# Altium footprint library QFP_Shrink_Sq_50P_Side_N.PcbLib: 32 footprints (part 3 of 3)
Each footprint in its own frame and in the unit in brackets; x right, y up, seen from the top. Pads: shape width x height; smd on the part's side, far side on the other; paste and mask are expansions set on the pad; w line width, h text height; cw(c..) or ccw(c..) is an arc to the next point about the centre after c.
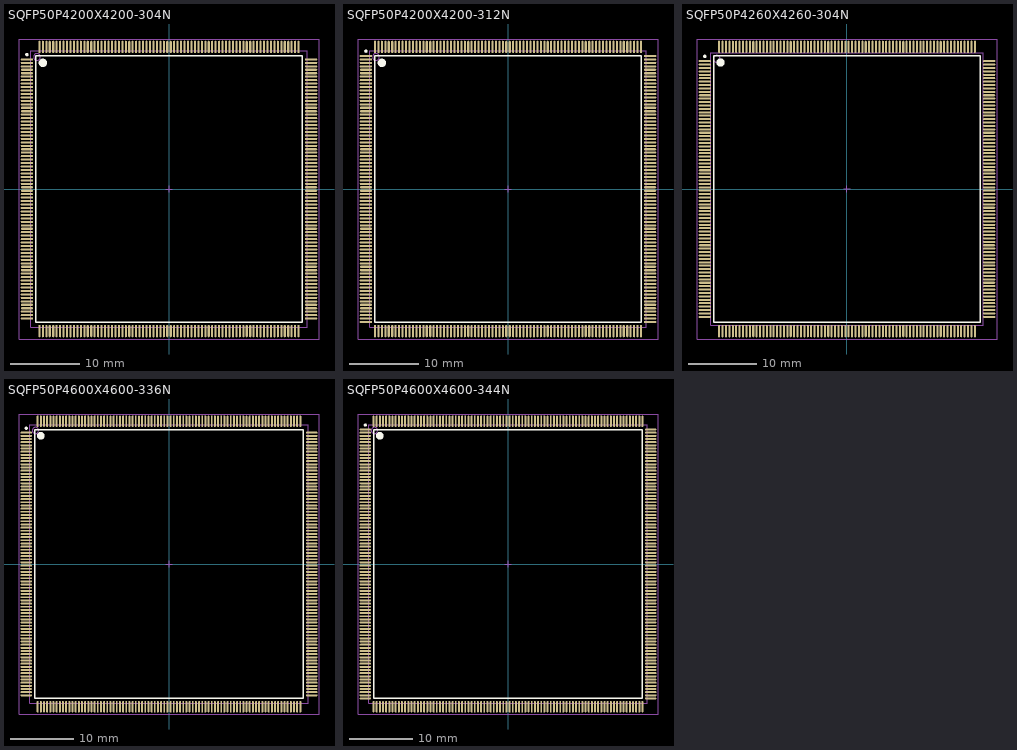
[diagram p2: the footprints below, top view; thin cyan lines are the x and y axes]

## SQFP50P4200X4200-304N [mm] "Shrink QFP, 304-Leads, Body 40x40mm, Pitch 0.5mm, IPC Medium Density"
height 4.2
pads (304):
  oval 1.8x0.3 smd: 1(-20.55,18.75) 2(-20.55,18.25) 3(-20.55,17.75) 4(-20.55,17.25) 5(-20.55,16.75) 6(-20.55,16.25) 7(-20.55,15.75) 8(-20.55,15.25) 9(-20.55,14.75) 10(-20.55,14.25) 11(-20.55,13.75) 12(-20.55,13.25) 13(-20.55,12.75) 14(-20.55,12.25) 15(-20.55,11.75) 16(-20.55,11.25) 17(-20.55,10.75) 18(-20.55,10.25) 19(-20.55,9.75) 20(-20.55,9.25) 21(-20.55,8.75) 22(-20.55,8.25) 23(-20.55,7.75) 24(-20.55,7.25) 25(-20.55,6.75) 26(-20.55,6.25) 27(-20.55,5.75) 28(-20.55,5.25) 29(-20.55,4.75) 30(-20.55,4.25) 31(-20.55,3.75) 32(-20.55,3.25) 33(-20.55,2.75) 34(-20.55,2.25) 35(-20.55,1.75) 36(-20.55,1.25) 37(-20.55,0.75) 38(-20.55,0.25) 39(-20.55,-0.25) 40(-20.55,-0.75) 41(-20.55,-1.25) 42(-20.55,-1.75) 43(-20.55,-2.25) 44(-20.55,-2.75) 45(-20.55,-3.25) 46(-20.55,-3.75) 47(-20.55,-4.25) 48(-20.55,-4.75) 49(-20.55,-5.25) 50(-20.55,-5.75) 51(-20.55,-6.25) 52(-20.55,-6.75) 53(-20.55,-7.25) 54(-20.55,-7.75) 55(-20.55,-8.25) 56(-20.55,-8.75) 57(-20.55,-9.25) 58(-20.55,-9.75) 59(-20.55,-10.25) 60(-20.55,-10.75) 61(-20.55,-11.25) 62(-20.55,-11.75) 63(-20.55,-12.25) 64(-20.55,-12.75) 65(-20.55,-13.25) 66(-20.55,-13.75) 67(-20.55,-14.25) 68(-20.55,-14.75) 69(-20.55,-15.25) 70(-20.55,-15.75) 71(-20.55,-16.25) 72(-20.55,-16.75) 73(-20.55,-17.25) 74(-20.55,-17.75) 75(-20.55,-18.25) 76(-20.55,-18.75) 153(20.55,-18.75) 154(20.55,-18.25) 155(20.55,-17.75) 156(20.55,-17.25) 157(20.55,-16.75) 158(20.55,-16.25) 159(20.55,-15.75) 160(20.55,-15.25) 161(20.55,-14.75) 162(20.55,-14.25) 163(20.55,-13.75) 164(20.55,-13.25) 165(20.55,-12.75) 166(20.55,-12.25) 167(20.55,-11.75) 168(20.55,-11.25) 169(20.55,-10.75) 170(20.55,-10.25) 171(20.55,-9.75) 172(20.55,-9.25) 173(20.55,-8.75) 174(20.55,-8.25) 175(20.55,-7.75) 176(20.55,-7.25) 177(20.55,-6.75) 178(20.55,-6.25) 179(20.55,-5.75) 180(20.55,-5.25) 181(20.55,-4.75) 182(20.55,-4.25) 183(20.55,-3.75) 184(20.55,-3.25) 185(20.55,-2.75) 186(20.55,-2.25) 187(20.55,-1.75) 188(20.55,-1.25) 189(20.55,-0.75) 190(20.55,-0.25) 191(20.55,0.25) 192(20.55,0.75) 193(20.55,1.25) 194(20.55,1.75) 195(20.55,2.25) 196(20.55,2.75) 197(20.55,3.25) 198(20.55,3.75) 199(20.55,4.25) 200(20.55,4.75) 201(20.55,5.25) 202(20.55,5.75) 203(20.55,6.25) 204(20.55,6.75) 205(20.55,7.25) 206(20.55,7.75) 207(20.55,8.25) 208(20.55,8.75) 209(20.55,9.25) 210(20.55,9.75) 211(20.55,10.25) 212(20.55,10.75) 213(20.55,11.25) 214(20.55,11.75) 215(20.55,12.25) 216(20.55,12.75) 217(20.55,13.25) 218(20.55,13.75) 219(20.55,14.25) 220(20.55,14.75) 221(20.55,15.25) 222(20.55,15.75) 223(20.55,16.25) 224(20.55,16.75) 225(20.55,17.25) 226(20.55,17.75) 227(20.55,18.25) 228(20.55,18.75)
  oval 0.3x1.8 smd: 77(-18.75,-20.55) 78(-18.25,-20.55) 79(-17.75,-20.55) 80(-17.25,-20.55) 81(-16.75,-20.55) 82(-16.25,-20.55) 83(-15.75,-20.55) 84(-15.25,-20.55) 85(-14.75,-20.55) 86(-14.25,-20.55) 87(-13.75,-20.55) 88(-13.25,-20.55) 89(-12.75,-20.55) 90(-12.25,-20.55) 91(-11.75,-20.55) 92(-11.25,-20.55) 93(-10.75,-20.55) 94(-10.25,-20.55) 95(-9.75,-20.55) 96(-9.25,-20.55) 97(-8.75,-20.55) 98(-8.25,-20.55) 99(-7.75,-20.55) 100(-7.25,-20.55) 101(-6.75,-20.55) 102(-6.25,-20.55) 103(-5.75,-20.55) 104(-5.25,-20.55) 105(-4.75,-20.55) 106(-4.25,-20.55) 107(-3.75,-20.55) 108(-3.25,-20.55) 109(-2.75,-20.55) 110(-2.25,-20.55) 111(-1.75,-20.55) 112(-1.25,-20.55) 113(-0.75,-20.55) 114(-0.25,-20.55) 115(0.25,-20.55) 116(0.75,-20.55) 117(1.25,-20.55) 118(1.75,-20.55) 119(2.25,-20.55) 120(2.75,-20.55) 121(3.25,-20.55) 122(3.75,-20.55) 123(4.25,-20.55) 124(4.75,-20.55) 125(5.25,-20.55) 126(5.75,-20.55) 127(6.25,-20.55) 128(6.75,-20.55) 129(7.25,-20.55) 130(7.75,-20.55) 131(8.25,-20.55) 132(8.75,-20.55) 133(9.25,-20.55) 134(9.75,-20.55) 135(10.25,-20.55) 136(10.75,-20.55) 137(11.25,-20.55) 138(11.75,-20.55) 139(12.25,-20.55) 140(12.75,-20.55) 141(13.25,-20.55) 142(13.75,-20.55) 143(14.25,-20.55) 144(14.75,-20.55) 145(15.25,-20.55) 146(15.75,-20.55) 147(16.25,-20.55) 148(16.75,-20.55) 149(17.25,-20.55) 150(17.75,-20.55) 151(18.25,-20.55) 152(18.75,-20.55) 229(18.75,20.55) 230(18.25,20.55) 231(17.75,20.55) 232(17.25,20.55) 233(16.75,20.55) 234(16.25,20.55) 235(15.75,20.55) 236(15.25,20.55) 237(14.75,20.55) 238(14.25,20.55) 239(13.75,20.55) 240(13.25,20.55) 241(12.75,20.55) 242(12.25,20.55) 243(11.75,20.55) 244(11.25,20.55) 245(10.75,20.55) 246(10.25,20.55) 247(9.75,20.55) 248(9.25,20.55) 249(8.75,20.55) 250(8.25,20.55) 251(7.75,20.55) 252(7.25,20.55) 253(6.75,20.55) 254(6.25,20.55) 255(5.75,20.55) 256(5.25,20.55) 257(4.75,20.55) 258(4.25,20.55) 259(3.75,20.55) 260(3.25,20.55) 261(2.75,20.55) 262(2.25,20.55) 263(1.75,20.55) 264(1.25,20.55) 265(0.75,20.55) 266(0.25,20.55) 267(-0.25,20.55) 268(-0.75,20.55) 269(-1.25,20.55) 270(-1.75,20.55) 271(-2.25,20.55) 272(-2.75,20.55) 273(-3.25,20.55) 274(-3.75,20.55) 275(-4.25,20.55) 276(-4.75,20.55) 277(-5.25,20.55) 278(-5.75,20.55) 279(-6.25,20.55) 280(-6.75,20.55) 281(-7.25,20.55) 282(-7.75,20.55) 283(-8.25,20.55) 284(-8.75,20.55) 285(-9.25,20.55) 286(-9.75,20.55) 287(-10.25,20.55) 288(-10.75,20.55) 289(-11.25,20.55) 290(-11.75,20.55) 291(-12.25,20.55) 292(-12.75,20.55) 293(-13.25,20.55) 294(-13.75,20.55) 295(-14.25,20.55) 296(-14.75,20.55) 297(-15.25,20.55) 298(-15.75,20.55) 299(-16.25,20.55) 300(-16.75,20.55) 301(-17.25,20.55) 302(-17.75,20.55) 303(-18.25,20.55) 304(-18.75,20.55)
Top Overlay:
  circle w0.6: c-18.25,18.25 r0.3
  circle w0.25: c-20.55,19.45 r0.125
  lines w0.2: -19.25,-19.25 19.25,-19.25 19.25,19.25 -19.25,19.25 -19.25,-19.25
Mechanical 13:
  circle w0.1: c-19.1,19.1 r0.5
  lines w0.1: -20,-20 20,-20 20,20 -20,20 -20,-20
Mechanical 15:
  lines w0.1: -0.5,0 0.5,0 ; 0,-0.5 0,0.5 ; -21.7,-21.7 21.7,-21.7 21.7,21.7 -21.7,21.7 -21.7,-21.7
3D body: height 4.2, standoff 0, extent -20,-20 20,20

## SQFP50P4200X4200-312N [mm] "Shrink QFP, 312-Leads, Body 40x40mm, Pitch 0.5mm, IPC Medium Density"
height 4.2
pads (312):
  oval 1.8x0.3 smd: 1(-20.55,19.25) 2(-20.55,18.75) 3(-20.55,18.25) 4(-20.55,17.75) 5(-20.55,17.25) 6(-20.55,16.75) 7(-20.55,16.25) 8(-20.55,15.75) 9(-20.55,15.25) 10(-20.55,14.75) 11(-20.55,14.25) 12(-20.55,13.75) 13(-20.55,13.25) 14(-20.55,12.75) 15(-20.55,12.25) 16(-20.55,11.75) 17(-20.55,11.25) 18(-20.55,10.75) 19(-20.55,10.25) 20(-20.55,9.75) 21(-20.55,9.25) 22(-20.55,8.75) 23(-20.55,8.25) 24(-20.55,7.75) 25(-20.55,7.25) 26(-20.55,6.75) 27(-20.55,6.25) 28(-20.55,5.75) 29(-20.55,5.25) 30(-20.55,4.75) 31(-20.55,4.25) 32(-20.55,3.75) 33(-20.55,3.25) 34(-20.55,2.75) 35(-20.55,2.25) 36(-20.55,1.75) 37(-20.55,1.25) 38(-20.55,0.75) 39(-20.55,0.25) 40(-20.55,-0.25) 41(-20.55,-0.75) 42(-20.55,-1.25) 43(-20.55,-1.75) 44(-20.55,-2.25) 45(-20.55,-2.75) 46(-20.55,-3.25) 47(-20.55,-3.75) 48(-20.55,-4.25) 49(-20.55,-4.75) 50(-20.55,-5.25) 51(-20.55,-5.75) 52(-20.55,-6.25) 53(-20.55,-6.75) 54(-20.55,-7.25) 55(-20.55,-7.75) 56(-20.55,-8.25) 57(-20.55,-8.75) 58(-20.55,-9.25) 59(-20.55,-9.75) 60(-20.55,-10.25) 61(-20.55,-10.75) 62(-20.55,-11.25) 63(-20.55,-11.75) 64(-20.55,-12.25) 65(-20.55,-12.75) 66(-20.55,-13.25) 67(-20.55,-13.75) 68(-20.55,-14.25) 69(-20.55,-14.75) 70(-20.55,-15.25) 71(-20.55,-15.75) 72(-20.55,-16.25) 73(-20.55,-16.75) 74(-20.55,-17.25) 75(-20.55,-17.75) 76(-20.55,-18.25) 77(-20.55,-18.75) 78(-20.55,-19.25) 157(20.55,-19.25) 158(20.55,-18.75) 159(20.55,-18.25) 160(20.55,-17.75) 161(20.55,-17.25) 162(20.55,-16.75) 163(20.55,-16.25) 164(20.55,-15.75) 165(20.55,-15.25) 166(20.55,-14.75) 167(20.55,-14.25) 168(20.55,-13.75) 169(20.55,-13.25) 170(20.55,-12.75) 171(20.55,-12.25) 172(20.55,-11.75) 173(20.55,-11.25) 174(20.55,-10.75) 175(20.55,-10.25) 176(20.55,-9.75) 177(20.55,-9.25) 178(20.55,-8.75) 179(20.55,-8.25) 180(20.55,-7.75) 181(20.55,-7.25) 182(20.55,-6.75) 183(20.55,-6.25) 184(20.55,-5.75) 185(20.55,-5.25) 186(20.55,-4.75) 187(20.55,-4.25) 188(20.55,-3.75) 189(20.55,-3.25) 190(20.55,-2.75) 191(20.55,-2.25) 192(20.55,-1.75) 193(20.55,-1.25) 194(20.55,-0.75) 195(20.55,-0.25) 196(20.55,0.25) 197(20.55,0.75) 198(20.55,1.25) 199(20.55,1.75) 200(20.55,2.25) 201(20.55,2.75) 202(20.55,3.25) 203(20.55,3.75) 204(20.55,4.25) 205(20.55,4.75) 206(20.55,5.25) 207(20.55,5.75) 208(20.55,6.25) 209(20.55,6.75) 210(20.55,7.25) 211(20.55,7.75) 212(20.55,8.25) 213(20.55,8.75) 214(20.55,9.25) 215(20.55,9.75) 216(20.55,10.25) 217(20.55,10.75) 218(20.55,11.25) 219(20.55,11.75) 220(20.55,12.25) 221(20.55,12.75) 222(20.55,13.25) 223(20.55,13.75) 224(20.55,14.25) 225(20.55,14.75) 226(20.55,15.25) 227(20.55,15.75) 228(20.55,16.25) 229(20.55,16.75) 230(20.55,17.25) 231(20.55,17.75) 232(20.55,18.25) 233(20.55,18.75) 234(20.55,19.25)
  oval 0.3x1.8 smd: 79(-19.25,-20.55) 80(-18.75,-20.55) 81(-18.25,-20.55) 82(-17.75,-20.55) 83(-17.25,-20.55) 84(-16.75,-20.55) 85(-16.25,-20.55) 86(-15.75,-20.55) 87(-15.25,-20.55) 88(-14.75,-20.55) 89(-14.25,-20.55) 90(-13.75,-20.55) 91(-13.25,-20.55) 92(-12.75,-20.55) 93(-12.25,-20.55) 94(-11.75,-20.55) 95(-11.25,-20.55) 96(-10.75,-20.55) 97(-10.25,-20.55) 98(-9.75,-20.55) 99(-9.25,-20.55) 100(-8.75,-20.55) 101(-8.25,-20.55) 102(-7.75,-20.55) 103(-7.25,-20.55) 104(-6.75,-20.55) 105(-6.25,-20.55) 106(-5.75,-20.55) 107(-5.25,-20.55) 108(-4.75,-20.55) 109(-4.25,-20.55) 110(-3.75,-20.55) 111(-3.25,-20.55) 112(-2.75,-20.55) 113(-2.25,-20.55) 114(-1.75,-20.55) 115(-1.25,-20.55) 116(-0.75,-20.55) 117(-0.25,-20.55) 118(0.25,-20.55) 119(0.75,-20.55) 120(1.25,-20.55) 121(1.75,-20.55) 122(2.25,-20.55) 123(2.75,-20.55) 124(3.25,-20.55) 125(3.75,-20.55) 126(4.25,-20.55) 127(4.75,-20.55) 128(5.25,-20.55) 129(5.75,-20.55) 130(6.25,-20.55) 131(6.75,-20.55) 132(7.25,-20.55) 133(7.75,-20.55) 134(8.25,-20.55) 135(8.75,-20.55) 136(9.25,-20.55) 137(9.75,-20.55) 138(10.25,-20.55) 139(10.75,-20.55) 140(11.25,-20.55) 141(11.75,-20.55) 142(12.25,-20.55) 143(12.75,-20.55) 144(13.25,-20.55) 145(13.75,-20.55) 146(14.25,-20.55) 147(14.75,-20.55) 148(15.25,-20.55) 149(15.75,-20.55) 150(16.25,-20.55) 151(16.75,-20.55) 152(17.25,-20.55) 153(17.75,-20.55) 154(18.25,-20.55) 155(18.75,-20.55) 156(19.25,-20.55) 235(19.25,20.55) 236(18.75,20.55) 237(18.25,20.55) 238(17.75,20.55) 239(17.25,20.55) 240(16.75,20.55) 241(16.25,20.55) 242(15.75,20.55) 243(15.25,20.55) 244(14.75,20.55) 245(14.25,20.55) 246(13.75,20.55) 247(13.25,20.55) 248(12.75,20.55) 249(12.25,20.55) 250(11.75,20.55) 251(11.25,20.55) 252(10.75,20.55) 253(10.25,20.55) 254(9.75,20.55) 255(9.25,20.55) 256(8.75,20.55) 257(8.25,20.55) 258(7.75,20.55) 259(7.25,20.55) 260(6.75,20.55) 261(6.25,20.55) 262(5.75,20.55) 263(5.25,20.55) 264(4.75,20.55) 265(4.25,20.55) 266(3.75,20.55) 267(3.25,20.55) 268(2.75,20.55) 269(2.25,20.55) 270(1.75,20.55) 271(1.25,20.55) 272(0.75,20.55) 273(0.25,20.55) 274(-0.25,20.55) 275(-0.75,20.55) 276(-1.25,20.55) 277(-1.75,20.55) 278(-2.25,20.55) 279(-2.75,20.55) 280(-3.25,20.55) 281(-3.75,20.55) 282(-4.25,20.55) 283(-4.75,20.55) 284(-5.25,20.55) 285(-5.75,20.55) 286(-6.25,20.55) 287(-6.75,20.55) 288(-7.25,20.55) 289(-7.75,20.55) 290(-8.25,20.55) 291(-8.75,20.55) 292(-9.25,20.55) 293(-9.75,20.55) 294(-10.25,20.55) 295(-10.75,20.55) 296(-11.25,20.55) 297(-11.75,20.55) 298(-12.25,20.55) 299(-12.75,20.55) 300(-13.25,20.55) 301(-13.75,20.55) 302(-14.25,20.55) 303(-14.75,20.55) 304(-15.25,20.55) 305(-15.75,20.55) 306(-16.25,20.55) 307(-16.75,20.55) 308(-17.25,20.55) 309(-17.75,20.55) 310(-18.25,20.55) 311(-18.75,20.55) 312(-19.25,20.55)
Top Overlay:
  circle w0.6: c-18.25,18.25 r0.3
  circle w0.25: c-20.55,19.95 r0.125
  lines w0.2: -19.25,-19.25 19.25,-19.25 19.25,19.25 -19.25,19.25 -19.25,-19.25
Mechanical 13:
  circle w0.1: c-19.1,19.1 r0.5
  lines w0.1: -20,-20 20,-20 20,20 -20,20 -20,-20
Mechanical 15:
  lines w0.1: -0.5,0 0.5,0 ; 0,-0.5 0,0.5 ; -21.7,-21.7 21.7,-21.7 21.7,21.7 -21.7,21.7 -21.7,-21.7
3D body: height 4.2, standoff 0, extent -20,-20 20,20

## SQFP50P4260X4260-304N [mm] "Shrink QFP, 304-Leads, Body 40x40mm, Pitch 0.5mm, IPC Medium Density"
height 4.5
pads (304):
  oval 1.8x0.3 smd: 1(-20.85,18.75) 2(-20.85,18.25) 3(-20.85,17.75) 4(-20.85,17.25) 5(-20.85,16.75) 6(-20.85,16.25) 7(-20.85,15.75) 8(-20.85,15.25) 9(-20.85,14.75) 10(-20.85,14.25) 11(-20.85,13.75) 12(-20.85,13.25) 13(-20.85,12.75) 14(-20.85,12.25) 15(-20.85,11.75) 16(-20.85,11.25) 17(-20.85,10.75) 18(-20.85,10.25) 19(-20.85,9.75) 20(-20.85,9.25) 21(-20.85,8.75) 22(-20.85,8.25) 23(-20.85,7.75) 24(-20.85,7.25) 25(-20.85,6.75) 26(-20.85,6.25) 27(-20.85,5.75) 28(-20.85,5.25) 29(-20.85,4.75) 30(-20.85,4.25) 31(-20.85,3.75) 32(-20.85,3.25) 33(-20.85,2.75) 34(-20.85,2.25) 35(-20.85,1.75) 36(-20.85,1.25) 37(-20.85,0.75) 38(-20.85,0.25) 39(-20.85,-0.25) 40(-20.85,-0.75) 41(-20.85,-1.25) 42(-20.85,-1.75) 43(-20.85,-2.25) 44(-20.85,-2.75) 45(-20.85,-3.25) 46(-20.85,-3.75) 47(-20.85,-4.25) 48(-20.85,-4.75) 49(-20.85,-5.25) 50(-20.85,-5.75) 51(-20.85,-6.25) 52(-20.85,-6.75) 53(-20.85,-7.25) 54(-20.85,-7.75) 55(-20.85,-8.25) 56(-20.85,-8.75) 57(-20.85,-9.25) 58(-20.85,-9.75) 59(-20.85,-10.25) 60(-20.85,-10.75) 61(-20.85,-11.25) 62(-20.85,-11.75) 63(-20.85,-12.25) 64(-20.85,-12.75) 65(-20.85,-13.25) 66(-20.85,-13.75) 67(-20.85,-14.25) 68(-20.85,-14.75) 69(-20.85,-15.25) 70(-20.85,-15.75) 71(-20.85,-16.25) 72(-20.85,-16.75) 73(-20.85,-17.25) 74(-20.85,-17.75) 75(-20.85,-18.25) 76(-20.85,-18.75) 153(20.85,-18.75) 154(20.85,-18.25) 155(20.85,-17.75) 156(20.85,-17.25) 157(20.85,-16.75) 158(20.85,-16.25) 159(20.85,-15.75) 160(20.85,-15.25) 161(20.85,-14.75) 162(20.85,-14.25) 163(20.85,-13.75) 164(20.85,-13.25) 165(20.85,-12.75) 166(20.85,-12.25) 167(20.85,-11.75) 168(20.85,-11.25) 169(20.85,-10.75) 170(20.85,-10.25) 171(20.85,-9.75) 172(20.85,-9.25) 173(20.85,-8.75) 174(20.85,-8.25) 175(20.85,-7.75) 176(20.85,-7.25) 177(20.85,-6.75) 178(20.85,-6.25) 179(20.85,-5.75) 180(20.85,-5.25) 181(20.85,-4.75) 182(20.85,-4.25) 183(20.85,-3.75) 184(20.85,-3.25) 185(20.85,-2.75) 186(20.85,-2.25) 187(20.85,-1.75) 188(20.85,-1.25) 189(20.85,-0.75) 190(20.85,-0.25) 191(20.85,0.25) 192(20.85,0.75) 193(20.85,1.25) 194(20.85,1.75) 195(20.85,2.25) 196(20.85,2.75) 197(20.85,3.25) 198(20.85,3.75) 199(20.85,4.25) 200(20.85,4.75) 201(20.85,5.25) 202(20.85,5.75) 203(20.85,6.25) 204(20.85,6.75) 205(20.85,7.25) 206(20.85,7.75) 207(20.85,8.25) 208(20.85,8.75) 209(20.85,9.25) 210(20.85,9.75) 211(20.85,10.25) 212(20.85,10.75) 213(20.85,11.25) 214(20.85,11.75) 215(20.85,12.25) 216(20.85,12.75) 217(20.85,13.25) 218(20.85,13.75) 219(20.85,14.25) 220(20.85,14.75) 221(20.85,15.25) 222(20.85,15.75) 223(20.85,16.25) 224(20.85,16.75) 225(20.85,17.25) 226(20.85,17.75) 227(20.85,18.25) 228(20.85,18.75)
  oval 0.3x1.8 smd: 77(-18.75,-20.85) 78(-18.25,-20.85) 79(-17.75,-20.85) 80(-17.25,-20.85) 81(-16.75,-20.85) 82(-16.25,-20.85) 83(-15.75,-20.85) 84(-15.25,-20.85) 85(-14.75,-20.85) 86(-14.25,-20.85) 87(-13.75,-20.85) 88(-13.25,-20.85) 89(-12.75,-20.85) 90(-12.25,-20.85) 91(-11.75,-20.85) 92(-11.25,-20.85) 93(-10.75,-20.85) 94(-10.25,-20.85) 95(-9.75,-20.85) 96(-9.25,-20.85) 97(-8.75,-20.85) 98(-8.25,-20.85) 99(-7.75,-20.85) 100(-7.25,-20.85) 101(-6.75,-20.85) 102(-6.25,-20.85) 103(-5.75,-20.85) 104(-5.25,-20.85) 105(-4.75,-20.85) 106(-4.25,-20.85) 107(-3.75,-20.85) 108(-3.25,-20.85) 109(-2.75,-20.85) 110(-2.25,-20.85) 111(-1.75,-20.85) 112(-1.25,-20.85) 113(-0.75,-20.85) 114(-0.25,-20.85) 115(0.25,-20.85) 116(0.75,-20.85) 117(1.25,-20.85) 118(1.75,-20.85) 119(2.25,-20.85) 120(2.75,-20.85) 121(3.25,-20.85) 122(3.75,-20.85) 123(4.25,-20.85) 124(4.75,-20.85) 125(5.25,-20.85) 126(5.75,-20.85) 127(6.25,-20.85) 128(6.75,-20.85) 129(7.25,-20.85) 130(7.75,-20.85) 131(8.25,-20.85) 132(8.75,-20.85) 133(9.25,-20.85) 134(9.75,-20.85) 135(10.25,-20.85) 136(10.75,-20.85) 137(11.25,-20.85) 138(11.75,-20.85) 139(12.25,-20.85) 140(12.75,-20.85) 141(13.25,-20.85) 142(13.75,-20.85) 143(14.25,-20.85) 144(14.75,-20.85) 145(15.25,-20.85) 146(15.75,-20.85) 147(16.25,-20.85) 148(16.75,-20.85) 149(17.25,-20.85) 150(17.75,-20.85) 151(18.25,-20.85) 152(18.75,-20.85) 229(18.75,20.85) 230(18.25,20.85) 231(17.75,20.85) 232(17.25,20.85) 233(16.75,20.85) 234(16.25,20.85) 235(15.75,20.85) 236(15.25,20.85) 237(14.75,20.85) 238(14.25,20.85) 239(13.75,20.85) 240(13.25,20.85) 241(12.75,20.85) 242(12.25,20.85) 243(11.75,20.85) 244(11.25,20.85) 245(10.75,20.85) 246(10.25,20.85) 247(9.75,20.85) 248(9.25,20.85) 249(8.75,20.85) 250(8.25,20.85) 251(7.75,20.85) 252(7.25,20.85) 253(6.75,20.85) 254(6.25,20.85) 255(5.75,20.85) 256(5.25,20.85) 257(4.75,20.85) 258(4.25,20.85) 259(3.75,20.85) 260(3.25,20.85) 261(2.75,20.85) 262(2.25,20.85) 263(1.75,20.85) 264(1.25,20.85) 265(0.75,20.85) 266(0.25,20.85) 267(-0.25,20.85) 268(-0.75,20.85) 269(-1.25,20.85) 270(-1.75,20.85) 271(-2.25,20.85) 272(-2.75,20.85) 273(-3.25,20.85) 274(-3.75,20.85) 275(-4.25,20.85) 276(-4.75,20.85) 277(-5.25,20.85) 278(-5.75,20.85) 279(-6.25,20.85) 280(-6.75,20.85) 281(-7.25,20.85) 282(-7.75,20.85) 283(-8.25,20.85) 284(-8.75,20.85) 285(-9.25,20.85) 286(-9.75,20.85) 287(-10.25,20.85) 288(-10.75,20.85) 289(-11.25,20.85) 290(-11.75,20.85) 291(-12.25,20.85) 292(-12.75,20.85) 293(-13.25,20.85) 294(-13.75,20.85) 295(-14.25,20.85) 296(-14.75,20.85) 297(-15.25,20.85) 298(-15.75,20.85) 299(-16.25,20.85) 300(-16.75,20.85) 301(-17.25,20.85) 302(-17.75,20.85) 303(-18.25,20.85) 304(-18.75,20.85)
Top Overlay:
  circle w0.6: c-18.55,18.55 r0.3
  circle w0.25: c-20.85,19.45 r0.125
  lines w0.2: -19.55,-19.55 19.55,-19.55 19.55,19.55 -19.55,19.55 -19.55,-19.55
Mechanical 13:
  circle w0.1: c-19.1,19.1 r0.5
  lines w0.1: -20,-20 20,-20 20,20 -20,20 -20,-20
Mechanical 15:
  lines w0.1: -0.5,0 0.5,0 ; 0,-0.5 0,0.5 ; -22,-22 22,-22 22,22 -22,22 -22,-22
3D body: height 4.5, standoff 0, extent -20,-20 20,20

## SQFP50P4600X4600-336N [mm] "Shrink QFP, 336-Leads, Body 44x44mm, Pitch 0.5mm, IPC Medium Density"
height 4.2
pads (336):
  oval 1.8x0.3 smd: 1(-22.55,20.75) 2(-22.55,20.25) 3(-22.55,19.75) 4(-22.55,19.25) 5(-22.55,18.75) 6(-22.55,18.25) 7(-22.55,17.75) 8(-22.55,17.25) 9(-22.55,16.75) 10(-22.55,16.25) 11(-22.55,15.75) 12(-22.55,15.25) 13(-22.55,14.75) 14(-22.55,14.25) 15(-22.55,13.75) 16(-22.55,13.25) 17(-22.55,12.75) 18(-22.55,12.25) 19(-22.55,11.75) 20(-22.55,11.25) 21(-22.55,10.75) 22(-22.55,10.25) 23(-22.55,9.75) 24(-22.55,9.25) 25(-22.55,8.75) 26(-22.55,8.25) 27(-22.55,7.75) 28(-22.55,7.25) 29(-22.55,6.75) 30(-22.55,6.25) 31(-22.55,5.75) 32(-22.55,5.25) 33(-22.55,4.75) 34(-22.55,4.25) 35(-22.55,3.75) 36(-22.55,3.25) 37(-22.55,2.75) 38(-22.55,2.25) 39(-22.55,1.75) 40(-22.55,1.25) 41(-22.55,0.75) 42(-22.55,0.25) 43(-22.55,-0.25) 44(-22.55,-0.75) 45(-22.55,-1.25) 46(-22.55,-1.75) 47(-22.55,-2.25) 48(-22.55,-2.75) 49(-22.55,-3.25) 50(-22.55,-3.75) 51(-22.55,-4.25) 52(-22.55,-4.75) 53(-22.55,-5.25) 54(-22.55,-5.75) 55(-22.55,-6.25) 56(-22.55,-6.75) 57(-22.55,-7.25) 58(-22.55,-7.75) 59(-22.55,-8.25) 60(-22.55,-8.75) 61(-22.55,-9.25) 62(-22.55,-9.75) 63(-22.55,-10.25) 64(-22.55,-10.75) 65(-22.55,-11.25) 66(-22.55,-11.75) 67(-22.55,-12.25) 68(-22.55,-12.75) 69(-22.55,-13.25) 70(-22.55,-13.75) 71(-22.55,-14.25) 72(-22.55,-14.75) 73(-22.55,-15.25) 74(-22.55,-15.75) 75(-22.55,-16.25) 76(-22.55,-16.75) 77(-22.55,-17.25) 78(-22.55,-17.75) 79(-22.55,-18.25) 80(-22.55,-18.75) 81(-22.55,-19.25) 82(-22.55,-19.75) 83(-22.55,-20.25) 84(-22.55,-20.75) 169(22.55,-20.75) 170(22.55,-20.25) 171(22.55,-19.75) 172(22.55,-19.25) 173(22.55,-18.75) 174(22.55,-18.25) 175(22.55,-17.75) 176(22.55,-17.25) 177(22.55,-16.75) 178(22.55,-16.25) 179(22.55,-15.75) 180(22.55,-15.25) 181(22.55,-14.75) 182(22.55,-14.25) 183(22.55,-13.75) 184(22.55,-13.25) 185(22.55,-12.75) 186(22.55,-12.25) 187(22.55,-11.75) 188(22.55,-11.25) 189(22.55,-10.75) 190(22.55,-10.25) 191(22.55,-9.75) 192(22.55,-9.25) 193(22.55,-8.75) 194(22.55,-8.25) 195(22.55,-7.75) 196(22.55,-7.25) 197(22.55,-6.75) 198(22.55,-6.25) 199(22.55,-5.75) 200(22.55,-5.25) 201(22.55,-4.75) 202(22.55,-4.25) 203(22.55,-3.75) 204(22.55,-3.25) 205(22.55,-2.75) 206(22.55,-2.25) 207(22.55,-1.75) 208(22.55,-1.25) 209(22.55,-0.75) 210(22.55,-0.25) 211(22.55,0.25) 212(22.55,0.75) 213(22.55,1.25) 214(22.55,1.75) 215(22.55,2.25) 216(22.55,2.75) 217(22.55,3.25) 218(22.55,3.75) 219(22.55,4.25) 220(22.55,4.75) 221(22.55,5.25) 222(22.55,5.75) 223(22.55,6.25) 224(22.55,6.75) 225(22.55,7.25) 226(22.55,7.75) 227(22.55,8.25) 228(22.55,8.75) 229(22.55,9.25) 230(22.55,9.75) 231(22.55,10.25) 232(22.55,10.75) 233(22.55,11.25) 234(22.55,11.75) 235(22.55,12.25) 236(22.55,12.75) 237(22.55,13.25) 238(22.55,13.75) 239(22.55,14.25) 240(22.55,14.75) 241(22.55,15.25) 242(22.55,15.75) 243(22.55,16.25) 244(22.55,16.75) 245(22.55,17.25) 246(22.55,17.75) 247(22.55,18.25) 248(22.55,18.75) 249(22.55,19.25) 250(22.55,19.75) 251(22.55,20.25) 252(22.55,20.75)
  oval 0.3x1.8 smd: 85(-20.75,-22.55) 86(-20.25,-22.55) 87(-19.75,-22.55) 88(-19.25,-22.55) 89(-18.75,-22.55) 90(-18.25,-22.55) 91(-17.75,-22.55) 92(-17.25,-22.55) 93(-16.75,-22.55) 94(-16.25,-22.55) 95(-15.75,-22.55) 96(-15.25,-22.55) 97(-14.75,-22.55) 98(-14.25,-22.55) 99(-13.75,-22.55) 100(-13.25,-22.55) 101(-12.75,-22.55) 102(-12.25,-22.55) 103(-11.75,-22.55) 104(-11.25,-22.55) 105(-10.75,-22.55) 106(-10.25,-22.55) 107(-9.75,-22.55) 108(-9.25,-22.55) 109(-8.75,-22.55) 110(-8.25,-22.55) 111(-7.75,-22.55) 112(-7.25,-22.55) 113(-6.75,-22.55) 114(-6.25,-22.55) 115(-5.75,-22.55) 116(-5.25,-22.55) 117(-4.75,-22.55) 118(-4.25,-22.55) 119(-3.75,-22.55) 120(-3.25,-22.55) 121(-2.75,-22.55) 122(-2.25,-22.55) 123(-1.75,-22.55) 124(-1.25,-22.55) 125(-0.75,-22.55) 126(-0.25,-22.55) 127(0.25,-22.55) 128(0.75,-22.55) 129(1.25,-22.55) 130(1.75,-22.55) 131(2.25,-22.55) 132(2.75,-22.55) 133(3.25,-22.55) 134(3.75,-22.55) 135(4.25,-22.55) 136(4.75,-22.55) 137(5.25,-22.55) 138(5.75,-22.55) 139(6.25,-22.55) 140(6.75,-22.55) 141(7.25,-22.55) 142(7.75,-22.55) 143(8.25,-22.55) 144(8.75,-22.55) 145(9.25,-22.55) 146(9.75,-22.55) 147(10.25,-22.55) 148(10.75,-22.55) 149(11.25,-22.55) 150(11.75,-22.55) 151(12.25,-22.55) 152(12.75,-22.55) 153(13.25,-22.55) 154(13.75,-22.55) 155(14.25,-22.55) 156(14.75,-22.55) 157(15.25,-22.55) 158(15.75,-22.55) 159(16.25,-22.55) 160(16.75,-22.55) 161(17.25,-22.55) 162(17.75,-22.55) 163(18.25,-22.55) 164(18.75,-22.55) 165(19.25,-22.55) 166(19.75,-22.55) 167(20.25,-22.55) 168(20.75,-22.55) 253(20.75,22.55) 254(20.25,22.55) 255(19.75,22.55) 256(19.25,22.55) 257(18.75,22.55) 258(18.25,22.55) 259(17.75,22.55) 260(17.25,22.55) 261(16.75,22.55) 262(16.25,22.55) 263(15.75,22.55) 264(15.25,22.55) 265(14.75,22.55) 266(14.25,22.55) 267(13.75,22.55) 268(13.25,22.55) 269(12.75,22.55) 270(12.25,22.55) 271(11.75,22.55) 272(11.25,22.55) 273(10.75,22.55) 274(10.25,22.55) 275(9.75,22.55) 276(9.25,22.55) 277(8.75,22.55) 278(8.25,22.55) 279(7.75,22.55) 280(7.25,22.55) 281(6.75,22.55) 282(6.25,22.55) 283(5.75,22.55) 284(5.25,22.55) 285(4.75,22.55) 286(4.25,22.55) 287(3.75,22.55) 288(3.25,22.55) 289(2.75,22.55) 290(2.25,22.55) 291(1.75,22.55) 292(1.25,22.55) 293(0.75,22.55) 294(0.25,22.55) 295(-0.25,22.55) 296(-0.75,22.55) 297(-1.25,22.55) 298(-1.75,22.55) 299(-2.25,22.55) 300(-2.75,22.55) 301(-3.25,22.55) 302(-3.75,22.55) 303(-4.25,22.55) 304(-4.75,22.55) 305(-5.25,22.55) 306(-5.75,22.55) 307(-6.25,22.55) 308(-6.75,22.55) 309(-7.25,22.55) 310(-7.75,22.55) 311(-8.25,22.55) 312(-8.75,22.55) 313(-9.25,22.55) 314(-9.75,22.55) 315(-10.25,22.55) 316(-10.75,22.55) 317(-11.25,22.55) 318(-11.75,22.55) 319(-12.25,22.55) 320(-12.75,22.55) 321(-13.25,22.55) 322(-13.75,22.55) 323(-14.25,22.55) 324(-14.75,22.55) 325(-15.25,22.55) 326(-15.75,22.55) 327(-16.25,22.55) 328(-16.75,22.55) 329(-17.25,22.55) 330(-17.75,22.55) 331(-18.25,22.55) 332(-18.75,22.55) 333(-19.25,22.55) 334(-19.75,22.55) 335(-20.25,22.55) 336(-20.75,22.55)
Top Overlay:
  circle w0.6: c-20.25,20.25 r0.3
  circle w0.25: c-22.55,21.45 r0.125
  lines w0.2: -21.25,-21.25 21.25,-21.25 21.25,21.25 -21.25,21.25 -21.25,-21.25
Mechanical 13:
  circle w0.1: c-21.1,21.1 r0.5
  lines w0.1: -22,-22 22,-22 22,22 -22,22 -22,-22
Mechanical 15:
  lines w0.1: -0.5,0 0.5,0 ; 0,-0.5 0,0.5 ; -23.7,-23.7 23.7,-23.7 23.7,23.7 -23.7,23.7 -23.7,-23.7
3D body: height 4.2, standoff 0, extent -22,-22 22,22

## SQFP50P4600X4600-344N [mm] "Shrink QFP, 344-Leads, Body 44x44mm, Pitch 0.5mm, IPC Medium Density"
height 4.2
pads (344):
  oval 1.8x0.3 smd: 1(-22.55,21.25) 2(-22.55,20.75) 3(-22.55,20.25) 4(-22.55,19.75) 5(-22.55,19.25) 6(-22.55,18.75) 7(-22.55,18.25) 8(-22.55,17.75) 9(-22.55,17.25) 10(-22.55,16.75) 11(-22.55,16.25) 12(-22.55,15.75) 13(-22.55,15.25) 14(-22.55,14.75) 15(-22.55,14.25) 16(-22.55,13.75) 17(-22.55,13.25) 18(-22.55,12.75) 19(-22.55,12.25) 20(-22.55,11.75) 21(-22.55,11.25) 22(-22.55,10.75) 23(-22.55,10.25) 24(-22.55,9.75) 25(-22.55,9.25) 26(-22.55,8.75) 27(-22.55,8.25) 28(-22.55,7.75) 29(-22.55,7.25) 30(-22.55,6.75) 31(-22.55,6.25) 32(-22.55,5.75) 33(-22.55,5.25) 34(-22.55,4.75) 35(-22.55,4.25) 36(-22.55,3.75) 37(-22.55,3.25) 38(-22.55,2.75) 39(-22.55,2.25) 40(-22.55,1.75) 41(-22.55,1.25) 42(-22.55,0.75) 43(-22.55,0.25) 44(-22.55,-0.25) 45(-22.55,-0.75) 46(-22.55,-1.25) 47(-22.55,-1.75) 48(-22.55,-2.25) 49(-22.55,-2.75) 50(-22.55,-3.25) 51(-22.55,-3.75) 52(-22.55,-4.25) 53(-22.55,-4.75) 54(-22.55,-5.25) 55(-22.55,-5.75) 56(-22.55,-6.25) 57(-22.55,-6.75) 58(-22.55,-7.25) 59(-22.55,-7.75) 60(-22.55,-8.25) 61(-22.55,-8.75) 62(-22.55,-9.25) 63(-22.55,-9.75) 64(-22.55,-10.25) 65(-22.55,-10.75) 66(-22.55,-11.25) 67(-22.55,-11.75) 68(-22.55,-12.25) 69(-22.55,-12.75) 70(-22.55,-13.25) 71(-22.55,-13.75) 72(-22.55,-14.25) 73(-22.55,-14.75) 74(-22.55,-15.25) 75(-22.55,-15.75) 76(-22.55,-16.25) 77(-22.55,-16.75) 78(-22.55,-17.25) 79(-22.55,-17.75) 80(-22.55,-18.25) 81(-22.55,-18.75) 82(-22.55,-19.25) 83(-22.55,-19.75) 84(-22.55,-20.25) 85(-22.55,-20.75) 86(-22.55,-21.25) 173(22.55,-21.25) 174(22.55,-20.75) 175(22.55,-20.25) 176(22.55,-19.75) 177(22.55,-19.25) 178(22.55,-18.75) 179(22.55,-18.25) 180(22.55,-17.75) 181(22.55,-17.25) 182(22.55,-16.75) 183(22.55,-16.25) 184(22.55,-15.75) 185(22.55,-15.25) 186(22.55,-14.75) 187(22.55,-14.25) 188(22.55,-13.75) 189(22.55,-13.25) 190(22.55,-12.75) 191(22.55,-12.25) 192(22.55,-11.75) 193(22.55,-11.25) 194(22.55,-10.75) 195(22.55,-10.25) 196(22.55,-9.75) 197(22.55,-9.25) 198(22.55,-8.75) 199(22.55,-8.25) 200(22.55,-7.75) 201(22.55,-7.25) 202(22.55,-6.75) 203(22.55,-6.25) 204(22.55,-5.75) 205(22.55,-5.25) 206(22.55,-4.75) 207(22.55,-4.25) 208(22.55,-3.75) 209(22.55,-3.25) 210(22.55,-2.75) 211(22.55,-2.25) 212(22.55,-1.75) 213(22.55,-1.25) 214(22.55,-0.75) 215(22.55,-0.25) 216(22.55,0.25) 217(22.55,0.75) 218(22.55,1.25) 219(22.55,1.75) 220(22.55,2.25) 221(22.55,2.75) 222(22.55,3.25) 223(22.55,3.75) 224(22.55,4.25) 225(22.55,4.75) 226(22.55,5.25) 227(22.55,5.75) 228(22.55,6.25) 229(22.55,6.75) 230(22.55,7.25) 231(22.55,7.75) 232(22.55,8.25) 233(22.55,8.75) 234(22.55,9.25) 235(22.55,9.75) 236(22.55,10.25) 237(22.55,10.75) 238(22.55,11.25) 239(22.55,11.75) 240(22.55,12.25) 241(22.55,12.75) 242(22.55,13.25) 243(22.55,13.75) 244(22.55,14.25) 245(22.55,14.75) 246(22.55,15.25) 247(22.55,15.75) 248(22.55,16.25) 249(22.55,16.75) 250(22.55,17.25) 251(22.55,17.75) 252(22.55,18.25) 253(22.55,18.75) 254(22.55,19.25) 255(22.55,19.75) 256(22.55,20.25) 257(22.55,20.75) 258(22.55,21.25)
  oval 0.3x1.8 smd: 87(-21.25,-22.55) 88(-20.75,-22.55) 89(-20.25,-22.55) 90(-19.75,-22.55) 91(-19.25,-22.55) 92(-18.75,-22.55) 93(-18.25,-22.55) 94(-17.75,-22.55) 95(-17.25,-22.55) 96(-16.75,-22.55) 97(-16.25,-22.55) 98(-15.75,-22.55) 99(-15.25,-22.55) 100(-14.75,-22.55) 101(-14.25,-22.55) 102(-13.75,-22.55) 103(-13.25,-22.55) 104(-12.75,-22.55) 105(-12.25,-22.55) 106(-11.75,-22.55) 107(-11.25,-22.55) 108(-10.75,-22.55) 109(-10.25,-22.55) 110(-9.75,-22.55) 111(-9.25,-22.55) 112(-8.75,-22.55) 113(-8.25,-22.55) 114(-7.75,-22.55) 115(-7.25,-22.55) 116(-6.75,-22.55) 117(-6.25,-22.55) 118(-5.75,-22.55) 119(-5.25,-22.55) 120(-4.75,-22.55) 121(-4.25,-22.55) 122(-3.75,-22.55) 123(-3.25,-22.55) 124(-2.75,-22.55) 125(-2.25,-22.55) 126(-1.75,-22.55) 127(-1.25,-22.55) 128(-0.75,-22.55) 129(-0.25,-22.55) 130(0.25,-22.55) 131(0.75,-22.55) 132(1.25,-22.55) 133(1.75,-22.55) 134(2.25,-22.55) 135(2.75,-22.55) 136(3.25,-22.55) 137(3.75,-22.55) 138(4.25,-22.55) 139(4.75,-22.55) 140(5.25,-22.55) 141(5.75,-22.55) 142(6.25,-22.55) 143(6.75,-22.55) 144(7.25,-22.55) 145(7.75,-22.55) 146(8.25,-22.55) 147(8.75,-22.55) 148(9.25,-22.55) 149(9.75,-22.55) 150(10.25,-22.55) 151(10.75,-22.55) 152(11.25,-22.55) 153(11.75,-22.55) 154(12.25,-22.55) 155(12.75,-22.55) 156(13.25,-22.55) 157(13.75,-22.55) 158(14.25,-22.55) 159(14.75,-22.55) 160(15.25,-22.55) 161(15.75,-22.55) 162(16.25,-22.55) 163(16.75,-22.55) 164(17.25,-22.55) 165(17.75,-22.55) 166(18.25,-22.55) 167(18.75,-22.55) 168(19.25,-22.55) 169(19.75,-22.55) 170(20.25,-22.55) 171(20.75,-22.55) 172(21.25,-22.55) 259(21.25,22.55) 260(20.75,22.55) 261(20.25,22.55) 262(19.75,22.55) 263(19.25,22.55) 264(18.75,22.55) 265(18.25,22.55) 266(17.75,22.55) 267(17.25,22.55) 268(16.75,22.55) 269(16.25,22.55) 270(15.75,22.55) 271(15.25,22.55) 272(14.75,22.55) 273(14.25,22.55) 274(13.75,22.55) 275(13.25,22.55) 276(12.75,22.55) 277(12.25,22.55) 278(11.75,22.55) 279(11.25,22.55) 280(10.75,22.55) 281(10.25,22.55) 282(9.75,22.55) 283(9.25,22.55) 284(8.75,22.55) 285(8.25,22.55) 286(7.75,22.55) 287(7.25,22.55) 288(6.75,22.55) 289(6.25,22.55) 290(5.75,22.55) 291(5.25,22.55) 292(4.75,22.55) 293(4.25,22.55) 294(3.75,22.55) 295(3.25,22.55) 296(2.75,22.55) 297(2.25,22.55) 298(1.75,22.55) 299(1.25,22.55) 300(0.75,22.55) 301(0.25,22.55) 302(-0.25,22.55) 303(-0.75,22.55) 304(-1.25,22.55) 305(-1.75,22.55) 306(-2.25,22.55) 307(-2.75,22.55) 308(-3.25,22.55) 309(-3.75,22.55) 310(-4.25,22.55) 311(-4.75,22.55) 312(-5.25,22.55) 313(-5.75,22.55) 314(-6.25,22.55) 315(-6.75,22.55) 316(-7.25,22.55) 317(-7.75,22.55) 318(-8.25,22.55) 319(-8.75,22.55) 320(-9.25,22.55) 321(-9.75,22.55) 322(-10.25,22.55) 323(-10.75,22.55) 324(-11.25,22.55) 325(-11.75,22.55) 326(-12.25,22.55) 327(-12.75,22.55) 328(-13.25,22.55) 329(-13.75,22.55) 330(-14.25,22.55) 331(-14.75,22.55) 332(-15.25,22.55) 333(-15.75,22.55) 334(-16.25,22.55) 335(-16.75,22.55) 336(-17.25,22.55) 337(-17.75,22.55) 338(-18.25,22.55) 339(-18.75,22.55) 340(-19.25,22.55) 341(-19.75,22.55) 342(-20.25,22.55) 343(-20.75,22.55) 344(-21.25,22.55)
Top Overlay:
  circle w0.6: c-20.25,20.25 r0.3
  circle w0.25: c-22.55,21.95 r0.125
  lines w0.2: -21.25,-21.25 21.25,-21.25 21.25,21.25 -21.25,21.25 -21.25,-21.25
Mechanical 13:
  circle w0.1: c-21.1,21.1 r0.5
  lines w0.1: -22,-22 22,-22 22,22 -22,22 -22,-22
Mechanical 15:
  lines w0.1: -0.5,0 0.5,0 ; 0,-0.5 0,0.5 ; -23.7,-23.7 23.7,-23.7 23.7,23.7 -23.7,23.7 -23.7,-23.7
3D body: height 4.2, standoff 0, extent -22,-22 22,22